# Altium footprint library biointerfaceController_pcb.PcbLib: 21 footprints (part 1 of 2)
Each footprint in its own frame and in the unit in brackets; x right, y up, seen from the top. Pads: shape width x height; smd on the part's side, far side on the other; paste and mask are expansions set on the pad; w line width, h text height; cw(c..) or ccw(c..) is an arc to the next point about the centre after c.
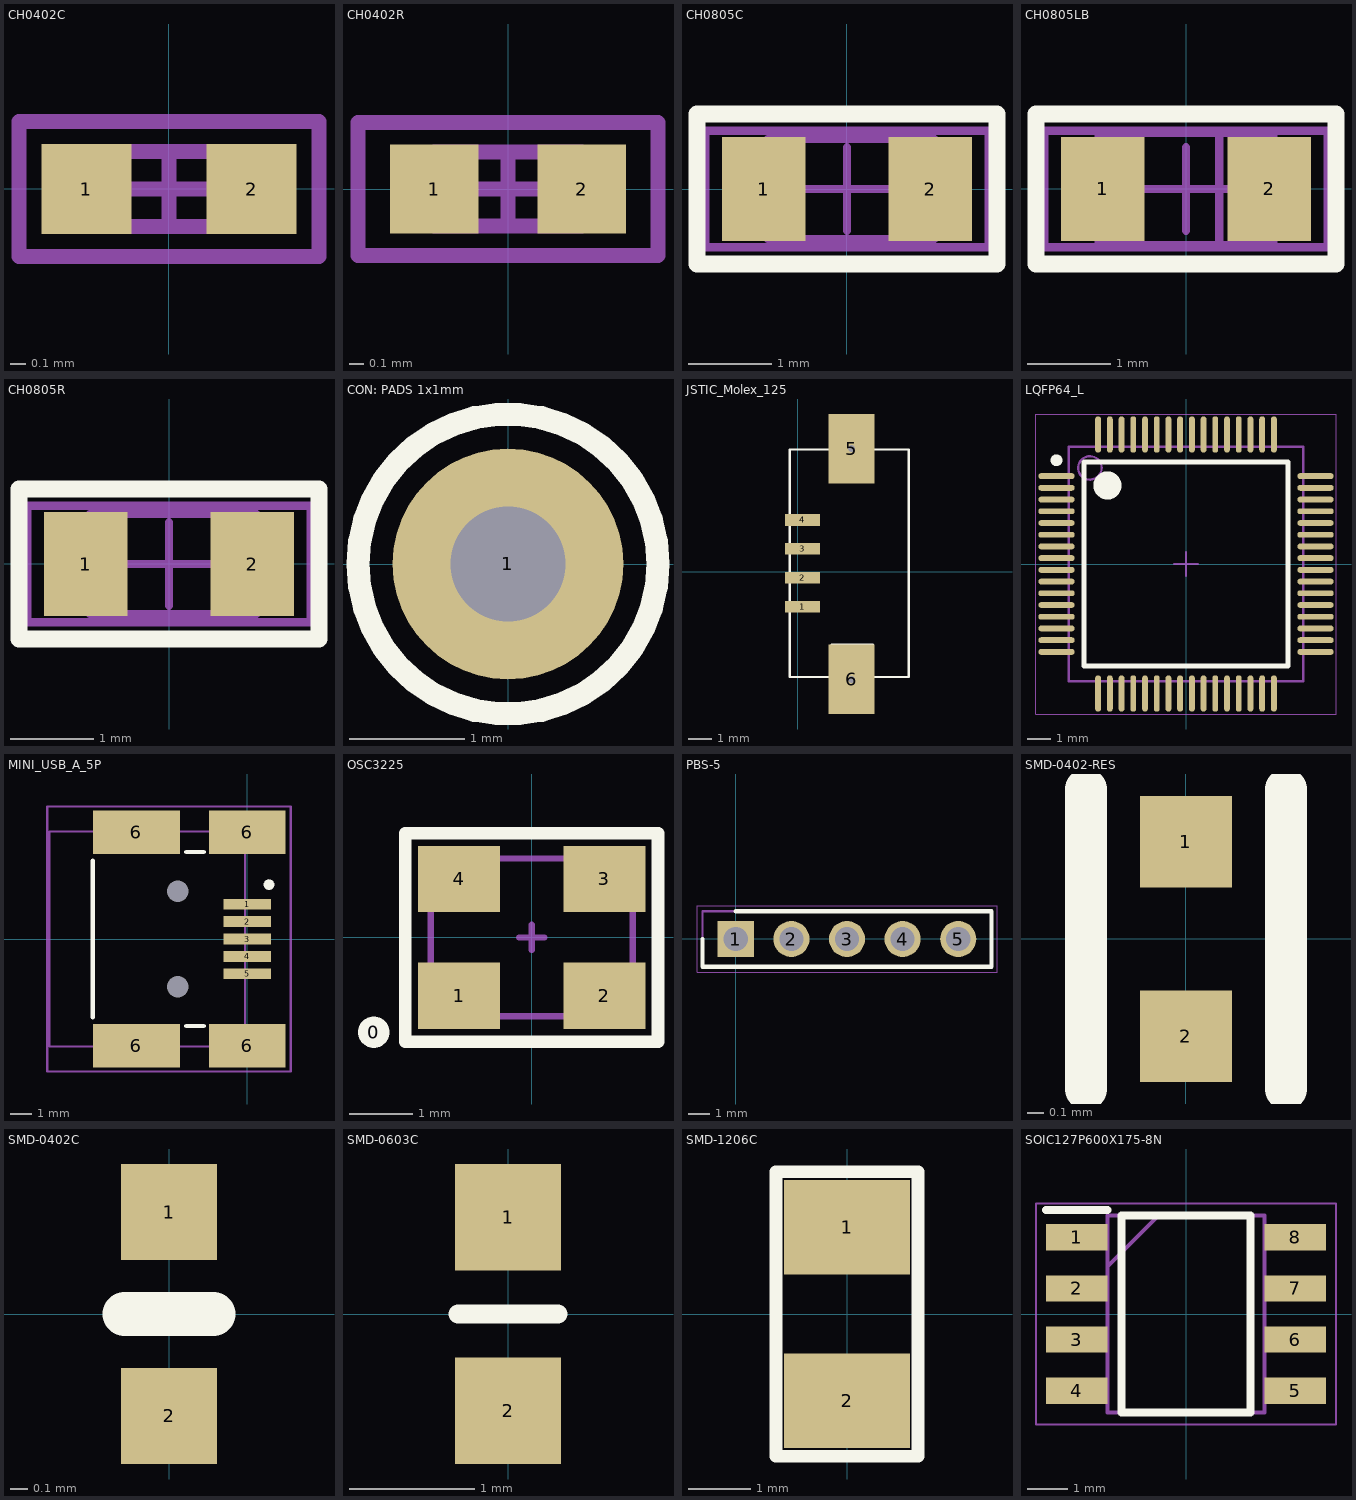
[diagram p0: the footprints below, top view; thin cyan lines are the x and y axes]

## CH0402C [mm]
pads (2):
  rect 0.6x0.6 smd: 1(-0.55,0) 2(0.55,0)
Mechanical 1:
  lines w0.1: -0.5,-0.25 -0.5,0.25 0.5,0.25 0.5,-0.25 -0.5,-0.25
Mechanical 15:
  lines w0.1: -0.25,0 0.25,0 ; 0,-0.25 0,0.25 ; -1,-0.45 1,-0.45 1,0.45 -1,0.45 -1,-0.45
3D body "User Library-0402(1005M) Cap.step": height 0.51, standoff 0, extent -0.508,-0.254 0.508,0.254

## CH0402R [mm]
pads (2):
  rect 0.6x0.6 smd: 1(-0.5,0) 2(0.5,0)
Mechanical 1:
  lines w0.1: -0.5,-0.25 -0.5,0.25 0.5,0.25 0.5,-0.25 -0.5,-0.25
Mechanical 15:
  lines w0.1: -0.25,0 0.25,0 ; 0,-0.25 0,0.25 ; -1.016,-0.45 -1.016,0.45 1.016,0.45 1.016,-0.45 -1.016,-0.45
3D body "chip_0402_r.STEP": height 0.34, standoff -0.02, extent -0.525,-0.25 0.475,0.25

## CH0805C [mm]
pads (2):
  rect 1x1.25 smd: 1(-1,0) 2(1,0)
Top Overlay:
  lines w0.2: -1.8,-0.9 1.8,-0.9 1.8,0.9 -1.8,0.9 -1.8,-0.9
Mechanical 1:
  lines w0.1: -0.949,-0.6 1.05,-0.6 1.05,0.6 -0.949,0.6 -0.949,-0.6
Mechanical 15:
  lines w0.1: -0.5,0 0.5,0 ; 0,-0.5 0,0.5 ; -1.7,-0.7 -1.7,0.7 1.7,0.7 1.7,-0.7 -1.7,-0.7
3D body "SW3dPS-0805 SMD Capacitor.STEP": height 0.78, standoff 0, extent -1,-0.625 1,0.625

## CH0805LB [mm]
pads (2):
  rect 1x1.25 smd: 1(-1,0) 2(1,0)
Top Overlay:
  lines w0.2: -1.8,-0.9 -1.8,0.9 1.8,0.9 1.8,-0.9 -1.8,-0.9
Mechanical 1:
  lines w0.1: 0.4,-0.675 0.4,0.675 ; -1.05,-0.675 -1.05,0.675 1.05,0.675 1.05,-0.675 -1.05,-0.675
Mechanical 15:
  lines w0.1: -0.5,0 0.5,0 ; 0,-0.5 0,0.5 ; -1.7,-0.7 1.7,-0.7 1.7,0.7 -1.7,0.7 -1.7,-0.7
3D body "LED 0805 - BLUE.STEP": height 0.9, standoff -0.01, extent -1.05,-0.675 1.05,0.675

## CH0805R [mm]
pads (2):
  rect 1x1.25 smd: 1(-1,0) 2(1,0)
Top Overlay:
  lines w0.2: -1.8,-0.9 1.8,-0.9 1.8,0.9 -1.8,0.9 -1.8,-0.9
Mechanical 1:
  lines w0.1: -0.949,-0.6 1.05,-0.6 1.05,0.6 -0.949,0.6 -0.949,-0.6
Mechanical 15:
  lines w0.1: -0.5,0 0.5,0 ; 0,-0.5 0,0.5 ; -1.7,-0.7 -1.7,0.7 1.7,0.7 1.7,-0.7 -1.7,-0.7
3D body "chip_0805_r.STEP": height 0.44, standoff -0.02, extent -1,-0.6 1,0.6

## CON: PADS 1x1mm [mm]
pads (1):
  round 2 hole 1: 1(0,0)
Top Overlay:
  circle w0.2: c0,0 r1.3

## JSTIC_Molex_125 [mm]
pads (6):
  rect 1.5x0.5 smd: 1(0.197,-1.505) 2(0.197,-0.255) 3(0.197,0.995) 4(0.197,2.245)
  rect 2x3 / inner rect 2x3 / far side round 0.6 hole 0.3: 5(2.322,5.334)
  rect 2x3 / inner round 1.524 / far side round 0.6 hole 0.3: 6(2.322,-4.655)
Top Overlay:
  lines w0.1: 1.447,-4.555 1.447,-3.155 3.247,-3.155 3.247,-4.555 ; 1.447,5.295 1.447,3.895 3.247,3.895 3.247,5.295 ; -0.353,-4.555 -0.353,5.295 4.797,5.295 4.797,-4.555 -0.353,-4.555

## LQFP64_L [mm]
pads (64):
  oval 1.55x0.25 smd: 1(-5.525,3.75) 2(-5.525,3.25) 3(-5.525,2.75) 4(-5.525,2.25) 5(-5.525,1.75) 6(-5.525,1.25) 7(-5.525,0.75) 8(-5.525,0.25) 9(-5.525,-0.25) 10(-5.525,-0.75) 11(-5.525,-1.25) 12(-5.525,-1.75) 13(-5.525,-2.25) 14(-5.525,-2.75) 15(-5.525,-3.25) 16(-5.525,-3.75) 33(5.525,-3.75) 34(5.525,-3.25) 35(5.525,-2.75) 36(5.525,-2.25) 37(5.525,-1.75) 38(5.525,-1.25) 39(5.525,-0.75) 40(5.525,-0.25) 41(5.525,0.25) 42(5.525,0.75) 43(5.525,1.25) 44(5.525,1.75) 45(5.525,2.25) 46(5.525,2.75) 47(5.525,3.25) 48(5.525,3.75)
  oval 0.25x1.55 smd: 17(-3.75,-5.525) 18(-3.25,-5.525) 19(-2.75,-5.525) 20(-2.25,-5.525) 21(-1.75,-5.525) 22(-1.25,-5.525) 23(-0.75,-5.525) 24(-0.25,-5.525) 25(0.25,-5.525) 26(0.75,-5.525) 27(1.25,-5.525) 28(1.75,-5.525) 29(2.25,-5.525) 30(2.75,-5.525) 31(3.25,-5.525) 32(3.75,-5.525) 49(3.75,5.525) 50(3.25,5.525) 51(2.75,5.525) 52(2.25,5.525) 53(1.75,5.525) 54(1.25,5.525) 55(0.75,5.525) 56(0.25,5.525) 57(-0.25,5.525) 58(-0.75,5.525) 59(-1.25,5.525) 60(-1.75,5.525) 61(-2.25,5.525) 62(-2.75,5.525) 63(-3.25,5.525) 64(-3.75,5.525)
Top Overlay:
  circle w0.6: c-3.35,3.35 r0.3
  circle w0.25: c-5.525,4.425 r0.125
  lines w0.2: -4.35,-4.35 4.35,-4.35 4.35,4.35 -4.35,4.35 -4.35,-4.35
Mechanical 13:
  circle w0.1: c-4.1,4.1 r0.5
  lines w0.1: -5,-5 5,-5 5,5 -5,5 -5,-5
Mechanical 15:
  lines w0.05: -6.4,-6.4 6.4,-6.4 6.4,6.4 -6.4,6.4 -6.4,-6.4
  lines w0.1: -0.5,0 0.5,0 ; 0,-0.5 0,0.5
3D body: height 1.6, standoff 0.05, extent -5,-5 5,5

## MINI_USB_A_5P [mm]
pads (13):
  rect 2.2x0.5 smd: 1(0,1.6) 2(0,0.8) 3(0,0) 4(0,-0.8) 5(0,-1.6)
  rect 4x2 smd: 6(-5.1,-4.9) 6(-5.1,4.9)
  rect 3.5x2 smd: 6(0,-4.9) 6(0,4.9)
  round 0 hole 1: ""(-3.2,-2.2) ""(-3.2,2.2)
  round 0.5 on Mech1: ""(-0.6,4.5)
  round 0.5 on Top Overlay: ""(1,2.5)
Top Overlay:
  lines w0.2: -7.1,-3.6 -7.1,3.6 ; -2.8,-4 -2,-4 ; -2.8,4 -2,4
Mechanical 1:
  lines w0.1: -9.1,-4.95 -9.1,4.95 -0.1,4.95 -0.1,-4.95 -9.1,-4.95
Mechanical 15:
  lines w0.1: -9.2,-6.1 -9.2,6.1 2,6.1 2,-6.1 -9.2,-6.1
3D body "675031020.stp": height 3.95, standoff -1, extent -9.1,-4.95 -0.1,4.95

## OSC3225 [mm]
pads (5):
  round 0.5 on Top Overlay: 0(-2.5,-1.5)
  rect 1.3x1.05 smd: 1(-1.15,-0.925) 2(1.15,-0.925) 3(1.15,0.925) 4(-1.15,0.925)
Top Overlay:
  lines w0.2: -2,-1.65 -2,1.65 2,1.65 2,-1.65 -2,-1.65
Mechanical 1:
  lines w0.1: -1.6,-1.25 1.6,-1.25 1.6,1.25 -1.6,1.25 -1.6,-1.25
Mechanical 15:
  lines w0.1: -0.2,0 0.2,0 ; 0,-0.2 0,0.2 ; -2,-1.7 2,-1.7 2,1.6 2,1.7 -2,1.7 -2,-1.7
3D body "User Library-User Library-Siward_SX3225.step": height 0.81, standoff 0, extent -1.6,-1.25 1.6,1.25

## PBS-5 [mm]
pads (5):
  rect 1.65x1.65 hole 1.1: 1(-0.001,-0.001)
  round 1.65 hole 1.1: 2(2.539,-0.001) 3(5.079,-0.001) 4(7.619,-0.001) 5(10.159,-0.001)
Top Overlay:
  lines w0.2: -1.521,-0.001 -1.521,-1.271 11.675,-1.271 ; -0.001,1.269 11.679,1.269 11.679,-1.271
Mechanical 13:
  lines w0.1: -1.521,-1.271 11.679,-1.271 11.679,1.269 -1.521,1.269 -1.521,-1.271
Mechanical 15:
  lines w0.05: -1.771,-1.521 11.929,-1.521 11.929,1.519 -1.771,1.519 -1.771,-1.521
3D body "DS1021-1_4SF1-1.stp": height 5.5, standoff -6.1, extent 1.229,-1.27 11.389,1.27
3D body "DS1021-1_4SF1-1.stp": height 5.5, standoff -6.1, extent -1.271,-1.27 8.889,1.27

## SMD-0402-RES [mm]
pads (2):
  rect 0.55x0.55 smd: 1(0,0.584) 2(0,-0.584)
Top Overlay:
  lines w0.254: -0.6,-0.9 -0.6,0.9 ; 0.6,-0.9 0.6,0.9
3D body "resistor0402.step": height 0.41, standoff 0, extent -0.275,-0.575 0.275,0.575

## SMD-0402C [mm]
pads (2):
  rect 0.55x0.55 smd: 1(0,0.584) 2(0,-0.584)
Top Overlay:
  lines w0.254: -0.254,0 0.254,0
3D body "capacitor 0402.step": height 0.51, standoff 0, extent -0.254,-0.508 0.254,0.508

## SMD-0603C [mm]
pads (2):
  rect 0.85x0.85 smd: 1(0,0.775) 2(0,-0.775)
Top Overlay:
  lines w0.152: -0.4,0 0.4,0
3D body "capacitor 0603.step": height 0.9, standoff 0, extent -0.4,-0.8 0.4,0.8

## SMD-1206C [mil]
pads (2):
  rect 80x60 smd: 1(0,55) 2(0,-55)
Top Overlay:
  lines w8: -45,-90 45,-90 45,90 -45,90 -45,-90
3D body "capacitor 1206.step": height 39.37, standoff 0, extent -31.49,-62.99 31.5,63

## SOIC127P600X175-8N [mm]
pads (8):
  rect 1.525x0.65 smd: 1(-2.712,1.905) 2(-2.712,0.635) 3(-2.712,-0.635) 4(-2.712,-1.905) 5(2.712,-1.905) 6(2.712,-0.635) 7(2.712,0.635) 8(2.712,1.905)
Top Overlay:
  lines w0.2: -3.475,2.58 -1.95,2.58 ; -1.6,-2.45 -1.6,2.45 1.6,2.45 1.6,-2.45 -1.6,-2.45
Mechanical 13:
  lines w0.1: -1.95,1.18 -0.68,2.45 ; -1.95,-2.45 -1.95,2.45 1.95,2.45 1.95,-2.45 -1.95,-2.45
Mechanical 15:
  lines w0.05: -3.725,-2.75 -3.725,2.75 3.725,2.75 3.725,-2.75 -3.725,-2.75
3D body "NE555DR.stp": height 1.75, standoff 0, extent -3,-2.45 3,2.45